# EAGLE library part PIN-7 (library EPL)
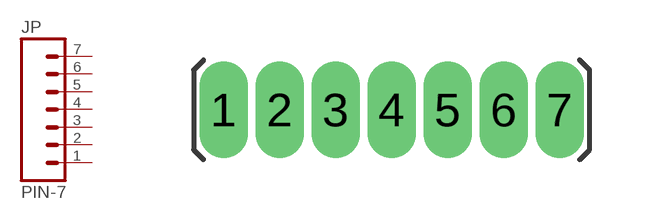
[diagram p5: symbol with the pads of PIN-7; footprint PIN-7]

Designator prefix JP

## PIN-7  [PIN-7]
1  1  pas
2  2  pas
3  3  pas
4  4  pas
5  5  pas
6  6  pas
7  7  pas

## Footprint PIN-7 (pad centres in mm)
drill 0.7 pad 1.016 long: 1 0,0; 2 1.4,0; 3 2.8,0; 4 4.2,0; 5 5.6,0; 6 7,0; 7 8.4,0